# Altium footprint library LM2731 footprint.PcbLib: 1 footprints
Each footprint in its own frame and in the unit in brackets; x right, y up, seen from the top. Pads: shape width x height; smd on the part's side, far side on the other; paste and mask are expansions set on the pad; w line width, h text height; cw(c..) or ccw(c..) is an arc to the next point about the centre after c.
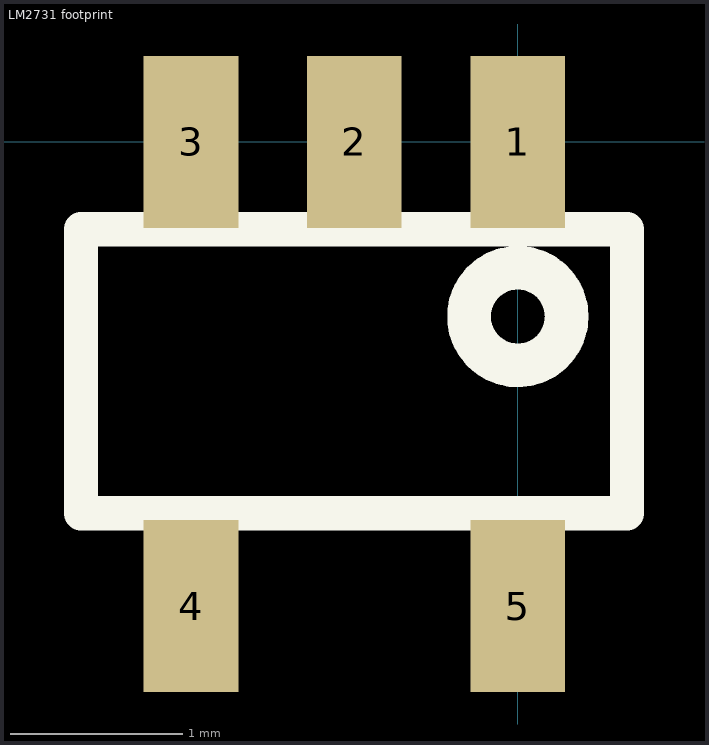
[diagram p0: the footprint, top view; thin cyan lines are the x and y axes]

## LM2731 footprint [mm]
pads (5):
  rect 0.55x1 smd paste+0 mask+0.05: 1(0,0) 2(-0.95,0) 3(-1.9,0) 4(-1.9,-2.7) 5(0,-2.7)
Top Overlay:
  circle w0.254: c0,-1.016 r0.284
  lines w0.2: -2.54,-2.159 0.635,-2.159 0.635,-0.508 -2.54,-0.508 -2.54,-2.159